# EAGLE library part JST-PH-08 (library pixhawk2)
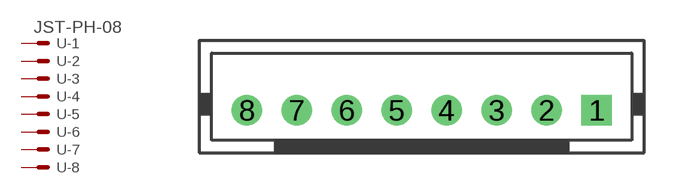
[diagram p54: symbol with the pads of B8B-PH-K-S; footprint B8B-PH-K-S]

Designator prefix -; gates -1=MV -2=M -3=M -4=M -5=M -6=M -7=M -8=M

## JST-PH-08  [B8B-PH-K-S]
1  -1:S  pas
2  -2:S  pas
3  -3:S  pas
4  -4:S  pas
5  -5:S  pas
6  -6:S  pas
7  -7:S  pas
8  -8:S  pas

## Footprint B8B-PH-K-S (pad centres in mm)
drill 0.7 pad 1.2 square: 1 0,0
drill 0.7 pad 1.2: 2 -2,0; 3 -4,0; 4 -6,0; 5 -8,0; 6 -10,0; 7 -12,0; 8 -14,0